# Altium footprint library 2019-03-30_19-29-43.PcbLib: 3 footprints
Each footprint in its own frame and in the unit in brackets; x right, y up, seen from the top. Pads: shape width x height; smd on the part's side, far side on the other; paste and mask are expansions set on the pad; w line width, h text height; cw(c..) or ccw(c..) is an arc to the next point about the centre after c.
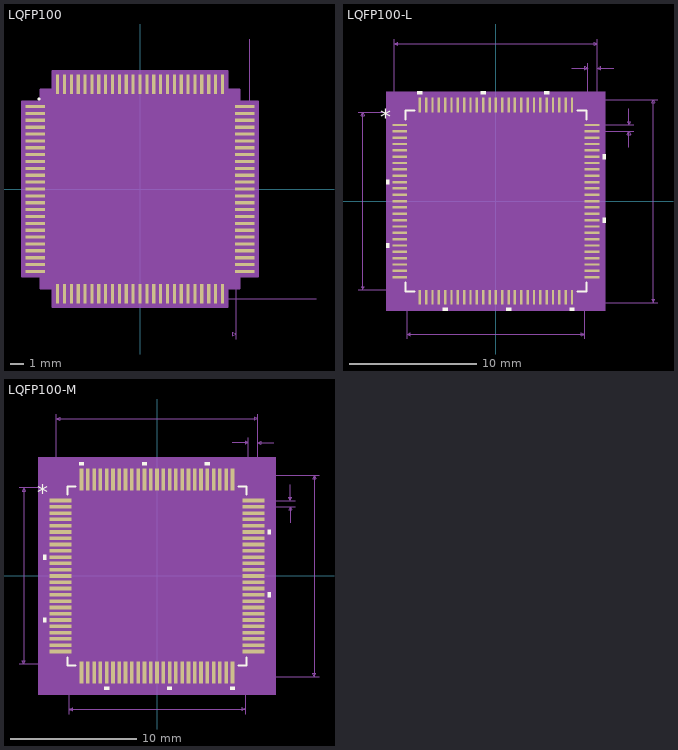
[diagram p0: the footprints below, top view; thin cyan lines are the x and y axes]

## LQFP100 [mm]
pads (100):
  rect 1.45x0.23 smd paste+0 mask+0: 1(-7.625,6) 2(-7.625,5.5) 3(-7.625,5) 4(-7.625,4.5) 5(-7.625,4) 6(-7.625,3.5) 7(-7.625,3) 8(-7.625,2.5) 9(-7.625,2) 10(-7.625,1.5) 11(-7.625,1) 12(-7.625,0.5) 13(-7.625,0) 14(-7.625,-0.5) 15(-7.625,-1) 16(-7.625,-1.5) 17(-7.625,-2) 18(-7.625,-2.5) 19(-7.625,-3) 20(-7.625,-3.5) 21(-7.625,-4) 22(-7.625,-4.5) 23(-7.625,-5) 24(-7.625,-5.5) 25(-7.625,-6) 51(7.625,-6) 52(7.625,-5.5) 53(7.625,-5) 54(7.625,-4.5) 55(7.625,-4) 56(7.625,-3.5) 57(7.625,-3) 58(7.625,-2.5) 59(7.625,-2) 60(7.625,-1.5) 61(7.625,-1) 62(7.625,-0.5) 63(7.625,0) 64(7.625,0.5) 65(7.625,1) 66(7.625,1.5) 67(7.625,2) 68(7.625,2.5) 69(7.625,3) 70(7.625,3.5) 71(7.625,4) 72(7.625,4.5) 73(7.625,5) 74(7.625,5.5) 75(7.625,6)
  rect 0.23x1.45 smd paste+0 mask+0: 26(-6,-7.625) 27(-5.5,-7.625) 28(-5,-7.625) 29(-4.5,-7.625) 30(-4,-7.625) 31(-3.5,-7.625) 32(-3,-7.625) 33(-2.5,-7.625) 34(-2,-7.625) 35(-1.5,-7.625) 36(-1,-7.625) 37(-0.5,-7.625) 38(0,-7.625) 39(0.5,-7.625) 40(1,-7.625) 41(1.5,-7.625) 42(2,-7.625) 43(2.5,-7.625) 44(3,-7.625) 45(3.5,-7.625) 46(4,-7.625) 47(4.5,-7.625) 48(5,-7.625) 49(5.5,-7.625) 50(6,-7.625) 76(6,7.625) 77(5.5,7.625) 78(5,7.625) 79(4.5,7.625) 80(4,7.625) 81(3.5,7.625) 82(3,7.625) 83(2.5,7.625) 84(2,7.625) 85(1.5,7.625) 86(1,7.625) 87(0.5,7.625) 88(0,7.625) 89(-0.5,7.625) 90(-1,7.625) 91(-1.5,7.625) 92(-2,7.625) 93(-2.5,7.625) 94(-3,7.625) 95(-3.5,7.625) 96(-4,7.625) 97(-4.5,7.625) 98(-5,7.625) 99(-5.5,7.625) 100(-6,7.625)
Top Overlay:
  circle w0.127: c-7.35,6.55 r0.051
Mechanical 7:
  lines w0.025: 6,-8 12.826,-8 ; 7,-10.921 7,-6 ; 8,6 8,10.921 ; 6.746,-10.667 6.746,-10.413 7,-10.54 6.746,-10.667
Mechanical 13:
  drawing of 405 lines, arcs and shapes, not listed
  text "*" at -6.936,5.615 h1.27
Mechanical 15:
  region: -6.369,-7.254 -7.254,-7.254 -7.254,-6.369 -8.604,-6.369 -8.604,6.369 -7.254,6.369 -7.254,7.254 -6.369,7.254 -6.369,8.604 6.369,8.604 6.369,7.254 7.254,7.254 7.254,6.369 8.604,6.369 8.604,-6.369 7.254,-6.369 7.254,-7.254 6.369,-7.254 6.369,-8.604 -6.369,-8.604
  lines w0.152: -8.604,-6.369 -8.604,6.369 -7.254,6.369 -7.254,7.254 -6.369,7.254 -6.369,8.604 6.369,8.604 6.369,7.254 7.254,7.254 7.254,6.369 8.604,6.369 8.604,-6.369 7.254,-6.369 7.254,-7.254 6.369,-7.254 6.369,-8.604 -6.369,-8.604 -6.369,-7.254 -7.254,-7.254 -7.254,-6.369 -8.604,-6.369
3D body "LQFP100.step": height 1.6, standoff 0, extent -8,-8 8,8
3D body: height 0.25, standoff 0, extent 0,0 0.254,0.254

## LQFP100-L [mm]
pads (100):
  rect 1.15x0.19 smd paste+0 mask+0: 1(-7.575,6) 2(-7.575,5.5) 3(-7.575,5) 4(-7.575,4.5) 5(-7.575,4) 6(-7.575,3.5) 7(-7.575,3) 8(-7.575,2.5) 9(-7.575,2) 10(-7.575,1.5) 11(-7.575,1) 12(-7.575,0.5) 13(-7.575,0) 14(-7.575,-0.5) 15(-7.575,-1) 16(-7.575,-1.5) 17(-7.575,-2) 18(-7.575,-2.5) 19(-7.575,-3) 20(-7.575,-3.5) 21(-7.575,-4) 22(-7.575,-4.5) 23(-7.575,-5) 24(-7.575,-5.5) 25(-7.575,-6) 51(7.575,-6) 52(7.575,-5.5) 53(7.575,-5) 54(7.575,-4.5) 55(7.575,-4) 56(7.575,-3.5) 57(7.575,-3) 58(7.575,-2.5) 59(7.575,-2) 60(7.575,-1.5) 61(7.575,-1) 62(7.575,-0.5) 63(7.575,0) 64(7.575,0.5) 65(7.575,1) 66(7.575,1.5) 67(7.575,2) 68(7.575,2.5) 69(7.575,3) 70(7.575,3.5) 71(7.575,4) 72(7.575,4.5) 73(7.575,5) 74(7.575,5.5) 75(7.575,6)
  rect 0.19x1.15 smd paste+0 mask+0: 26(-6,-7.575) 27(-5.5,-7.575) 28(-5,-7.575) 29(-4.5,-7.575) 30(-4,-7.575) 31(-3.5,-7.575) 32(-3,-7.575) 33(-2.5,-7.575) 34(-2,-7.575) 35(-1.5,-7.575) 36(-1,-7.575) 37(-0.5,-7.575) 38(0,-7.575) 39(0.5,-7.575) 40(1,-7.575) 41(1.5,-7.575) 42(2,-7.575) 43(2.5,-7.575) 44(3,-7.575) 45(3.5,-7.575) 46(4,-7.575) 47(4.5,-7.575) 48(5,-7.575) 49(5.5,-7.575) 50(6,-7.575) 76(6,7.575) 77(5.5,7.575) 78(5,7.575) 79(4.5,7.575) 80(4,7.575) 81(3.5,7.575) 82(3,7.575) 83(2.5,7.575) 84(2,7.575) 85(1.5,7.575) 86(1,7.575) 87(0.5,7.575) 88(0,7.575) 89(-0.5,7.575) 90(-1,7.575) 91(-1.5,7.575) 92(-2,7.575) 93(-2.5,7.575) 94(-3,7.575) 95(-3.5,7.575) 96(-4,7.575) 97(-4.5,7.575) 98(-5,7.575) 99(-5.5,7.575) 100(-6,7.575)
Top Overlay:
  region: -5.81,8.404 -6.191,8.404 -6.191,8.658 -5.81,8.658
  region: -0.81,8.404 -1.191,8.404 -1.191,8.658 -0.81,8.658
  region: 4.19,8.404 3.809,8.404 3.809,8.658 4.19,8.658
  region: 8.404,3.691 8.658,3.691 8.658,3.31 8.404,3.31
  region: 8.404,-1.309 8.658,-1.309 8.658,-1.69 8.404,-1.69
  region: 6.191,-8.404 5.81,-8.404 5.81,-8.658 6.191,-8.658
  region: 1.191,-8.404 0.81,-8.404 0.81,-8.658 1.191,-8.658
  region: -3.809,-8.404 -4.19,-8.404 -4.19,-8.658 -3.809,-8.658
  region: -8.404,-3.31 -8.658,-3.31 -8.658,-3.691 -8.404,-3.691
  region: -8.404,1.69 -8.658,1.69 -8.658,1.309 -8.404,1.309
  lines w0.152: -7.127,-6.428 -7.127,-7.127 -6.428,-7.127 ; -7.127,6.428 -7.127,7.127 -6.428,7.127 ; 6.428,-7.127 7.127,-7.127 7.127,-6.428 ; 6.428,7.127 7.127,7.127 7.127,6.428
  text "*" at -9.102,5.996 h1.27
Mechanical 5:
  region: 8.633,-8.633 -8.633,-8.633 -8.633,8.633 8.633,8.633
Mechanical 7:
  lines w0.025: -10.871,-7 -6,-7 ; -10.871,7 -6,7 ; -8,6 -8,12.776 ; -7,-10.871 -7,-6 ; 5.98,10.49 7.25,10.49 ; 6,-8 12.776,-8 ; 6,8 12.776,8 ; 7,-10.871 7,-6 ; 7.25,6 7.25,10.871 ; 7.575,5.5 10.871,5.5 ; 7.575,6 10.871,6 ; 8,10.871 8,6 8,12.776 ; 9.27,10.49 8,10.49 ; 10.49,4.23 10.49,5.5 ; 10.49,7.27 10.49,6 ; -10.49,-7 -10.363,-6.746 -10.617,-6.746 -10.49,-7 ; -10.49,-7 -10.49,7 ; -10.49,7 -10.363,6.746 -10.617,6.746 -10.49,7 ; -8,12.395 -7.746,12.268 -7.746,12.522 -8,12.395 ; -8,12.395 8,12.395 ; -7,-10.49 -6.746,-10.617 -6.746,-10.363 -7,-10.49 ; -7,-10.49 7,-10.49 ; 7,-10.49 6.746,-10.617 6.746,-10.363 7,-10.49 ; 7.25,10.49 6.996,10.363 6.996,10.617 7.25,10.49 ; 8,10.49 8.254,10.363 8.254,10.617 8,10.49 ; 8,12.395 7.746,12.268 7.746,12.522 8,12.395 ; 10.49,5.5 10.617,5.246 10.363,5.246 10.49,5.5 ; 10.49,6 10.617,6.254 10.363,6.254 10.49,6 ; 12.395,-8 12.522,-7.746 12.268,-7.746 12.395,-8 ; 12.395,-8 12.395,8 ; 12.395,8 12.522,7.746 12.268,7.746 12.395,8
  text "0.63in/16mm" at 12.903,-0.318 h0.64
  text "0.551in/14mm" at -14.808,-0.318 h0.64
  text "0.551in/14mm" at -1.905,-11.633 h0.64
  text "0.63in/16mm" at -1.746,12.903 h0.64
  text "0.03in/0.75mm" at 5.561,10.998 h0.64
  text "0.02in/0.5mm" at 10.998,5.433 h0.64
  text "Alt 2 Padstyle: b229_152h76" at -8.572,-21.92 h1.27
  text "Alt 1 Padstyle: b152_229h76" at -8.572,-20.396 h1.27
  text "Default Vert Padstyle: r19_115" at -9.525,-15.824 h1.27
  text "Default Horiz Padstyle: r19_115" at -9.842,-14.3 h1.27
Mechanical 13:
  drawing of 405 lines, arcs and shapes, not listed
  text "*" at -6.936,5.615 h1.27
Mechanical 15:
  region: -6.197,-7.102 -7.102,-7.102 -7.102,-6.197 -8.252,-6.197 -8.252,6.197 -7.102,6.197 -7.102,7.102 -6.197,7.102 -6.197,8.252 6.197,8.252 6.197,7.102 7.102,7.102 7.102,6.197 8.252,6.197 8.252,-6.197 7.102,-6.197 7.102,-7.102 6.197,-7.102 6.197,-8.252 -6.197,-8.252
  lines w0.152: -8.252,-6.197 -8.252,6.197 -7.102,6.197 -7.102,7.102 -6.197,7.102 -6.197,8.252 6.197,8.252 6.197,7.102 7.102,7.102 7.102,6.197 8.252,6.197 8.252,-6.197 7.102,-6.197 7.102,-7.102 6.197,-7.102 6.197,-8.252 -6.197,-8.252 -6.197,-7.102 -7.102,-7.102 -7.102,-6.197 -8.252,-6.197
3D body: height 0.25, standoff 0, extent 0,0 0.254,0.254

## LQFP100-M [mm]
pads (100):
  rect 1.75x0.29 smd paste+0 mask+0: 1(-7.675,6) 2(-7.675,5.5) 3(-7.675,5) 4(-7.675,4.5) 5(-7.675,4) 6(-7.675,3.5) 7(-7.675,3) 8(-7.675,2.5) 9(-7.675,2) 10(-7.675,1.5) 11(-7.675,1) 12(-7.675,0.5) 13(-7.675,0) 14(-7.675,-0.5) 15(-7.675,-1) 16(-7.675,-1.5) 17(-7.675,-2) 18(-7.675,-2.5) 19(-7.675,-3) 20(-7.675,-3.5) 21(-7.675,-4) 22(-7.675,-4.5) 23(-7.675,-5) 24(-7.675,-5.5) 25(-7.675,-6) 51(7.675,-6) 52(7.675,-5.5) 53(7.675,-5) 54(7.675,-4.5) 55(7.675,-4) 56(7.675,-3.5) 57(7.675,-3) 58(7.675,-2.5) 59(7.675,-2) 60(7.675,-1.5) 61(7.675,-1) 62(7.675,-0.5) 63(7.675,0) 64(7.675,0.5) 65(7.675,1) 66(7.675,1.5) 67(7.675,2) 68(7.675,2.5) 69(7.675,3) 70(7.675,3.5) 71(7.675,4) 72(7.675,4.5) 73(7.675,5) 74(7.675,5.5) 75(7.675,6)
  rect 0.29x1.75 smd paste+0 mask+0: 26(-6,-7.675) 27(-5.5,-7.675) 28(-5,-7.675) 29(-4.5,-7.675) 30(-4,-7.675) 31(-3.5,-7.675) 32(-3,-7.675) 33(-2.5,-7.675) 34(-2,-7.675) 35(-1.5,-7.675) 36(-1,-7.675) 37(-0.5,-7.675) 38(0,-7.675) 39(0.5,-7.675) 40(1,-7.675) 41(1.5,-7.675) 42(2,-7.675) 43(2.5,-7.675) 44(3,-7.675) 45(3.5,-7.675) 46(4,-7.675) 47(4.5,-7.675) 48(5,-7.675) 49(5.5,-7.675) 50(6,-7.675) 76(6,7.675) 77(5.5,7.675) 78(5,7.675) 79(4.5,7.675) 80(4,7.675) 81(3.5,7.675) 82(3,7.675) 83(2.5,7.675) 84(2,7.675) 85(1.5,7.675) 86(1,7.675) 87(0.5,7.675) 88(0,7.675) 89(-0.5,7.675) 90(-1,7.675) 91(-1.5,7.675) 92(-2,7.675) 93(-2.5,7.675) 94(-3,7.675) 95(-3.5,7.675) 96(-4,7.675) 97(-4.5,7.675) 98(-5,7.675) 99(-5.5,7.675) 100(-6,7.675)
Top Overlay:
  region: -8.804,1.69 -9.058,1.69 -9.058,1.309 -8.804,1.309
  region: -8.804,-3.31 -9.058,-3.31 -9.058,-3.691 -8.804,-3.691
  region: -3.809,-8.804 -4.19,-8.804 -4.19,-9.058 -3.809,-9.058
  region: 1.191,-8.804 0.81,-8.804 0.81,-9.058 1.191,-9.058
  region: 6.191,-8.804 5.81,-8.804 5.81,-9.058 6.191,-9.058
  region: 8.804,-1.309 9.058,-1.309 9.058,-1.69 8.804,-1.69
  region: 8.804,3.691 9.058,3.691 9.058,3.31 8.804,3.31
  region: 4.19,8.804 3.809,8.804 3.809,9.058 4.19,9.058
  region: -0.81,8.804 -1.191,8.804 -1.191,9.058 -0.81,9.058
  region: -5.81,8.804 -6.191,8.804 -6.191,9.058 -5.81,9.058
  lines w0.152: -7.127,-6.478 -7.127,-7.127 -6.478,-7.127 ; -7.127,6.478 -7.127,7.127 -6.478,7.127 ; 6.478,-7.127 7.127,-7.127 7.127,-6.478 ; 6.478,7.127 7.127,7.127 7.127,6.478
  text "*" at -9.502,5.996 h1.27
Mechanical 5:
  region: 9.439,-9.439 -9.439,-9.439 -9.439,9.439 9.439,9.439
Mechanical 7:
  lines w0.025: -10.971,-7 -6,-7 ; -10.971,7 -6,7 ; -8,6 -8,12.876 ; -7,-10.971 -7,-6 ; 5.98,10.59 7.25,10.59 ; 6,-8 12.876,-8 ; 6,8 12.876,8 ; 7,-10.971 7,-6 ; 7.25,6 7.25,10.971 ; 7.675,5.5 10.971,5.5 ; 7.675,6 10.971,6 ; 8,10.971 8,6 8,12.876 ; 9.27,10.59 8,10.59 ; 10.59,4.23 10.59,5.5 ; 10.59,7.27 10.59,6 ; -10.59,-7 -10.59,7 ; -10.59,-7 -10.717,-6.746 -10.463,-6.746 -10.59,-7 ; -10.59,7 -10.717,6.746 -10.463,6.746 -10.59,7 ; -8,12.495 8,12.495 ; -8,12.495 -7.746,12.622 -7.746,12.368 -8,12.495 ; -7,-10.59 7,-10.59 ; -7,-10.59 -6.746,-10.463 -6.746,-10.717 -7,-10.59 ; 7,-10.59 6.746,-10.463 6.746,-10.717 7,-10.59 ; 7.25,10.59 6.996,10.717 6.996,10.463 7.25,10.59 ; 8,10.59 8.254,10.717 8.254,10.463 8,10.59 ; 8,12.495 7.746,12.622 7.746,12.368 8,12.495 ; 10.59,5.5 10.463,5.246 10.717,5.246 10.59,5.5 ; 10.59,6 10.463,6.254 10.717,6.254 10.59,6 ; 12.495,-8 12.495,8 ; 12.495,-8 12.368,-7.746 12.622,-7.746 12.495,-8 ; 12.495,8 12.368,7.746 12.622,7.746 12.495,8
  text "Default Horiz Padstyle: r29_175" at -9.842,-14.4 h1.27
  text "Default Vert Padstyle: r29_175" at -9.525,-15.924 h1.27
  text "Alt 1 Padstyle: b152_229h76" at -8.572,-20.496 h1.27
  text "Alt 2 Padstyle: b229_152h76" at -8.572,-22.02 h1.27
  text "0.02in/0.5mm" at 11.098,5.433 h0.64
  text "0.03in/0.75mm" at 5.561,11.098 h0.64
  text "0.63in/16mm" at -1.746,13.003 h0.64
  text "0.551in/14mm" at -1.905,-11.733 h0.64
  text "0.551in/14mm" at -14.908,-0.318 h0.64
  text "0.63in/16mm" at 13.003,-0.318 h0.64
Mechanical 13:
  drawing of 409 lines, arcs and shapes, not listed
  text "*" at -6.936,5.615 h1.27
Mechanical 15:
  region: -6.653,-7.508 -7.508,-7.508 -7.508,-6.653 -9.058,-6.653 -9.058,6.653 -7.508,6.653 -7.508,7.508 -6.653,7.508 -6.653,9.058 6.653,9.058 6.653,7.508 7.508,7.508 7.508,6.653 9.058,6.653 9.058,-6.653 7.508,-6.653 7.508,-7.508 6.653,-7.508 6.653,-9.058 -6.653,-9.058
  lines w0.152: -9.058,-6.653 -7.508,-6.653 -7.508,-7.508 -6.653,-7.508 -6.653,-9.058 6.653,-9.058 6.653,-7.508 7.508,-7.508 7.508,-6.653 9.058,-6.653 9.058,6.653 7.508,6.653 7.508,7.508 6.653,7.508 6.653,9.058 -6.653,9.058 -6.653,7.508 -7.508,7.508 -7.508,6.653 -9.058,6.653 -9.058,-6.653
3D body: height 0.25, standoff 0, extent 0,0 0.254,0.254